# Altium footprint library 0603Capacitor.PcbLib: 3 footprints
Each footprint in its own frame and in the unit in brackets; x right, y up, seen from the top. Pads: shape width x height; smd on the part's side, far side on the other; paste and mask are expansions set on the pad; w line width, h text height; cw(c..) or ccw(c..) is an arc to the next point about the centre after c.
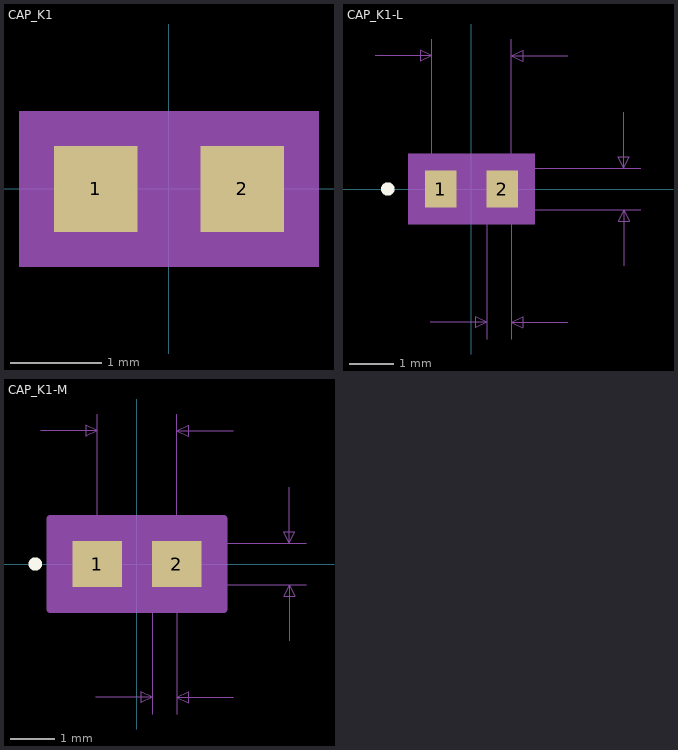
[diagram p0: the footprints below, top view; thin cyan lines are the x and y axes]

## CAP_K1 [mil]
pads (2):
  rect 36x37 smd paste+0 mask+0: 1(-31.5,0) 2(31.5,0)
Mechanical 5:
  region: 64.5,-33.5 -64.5,-33.5 -64.5,33.5 64.5,33.5
Mechanical 13:
  lines w1: -35.5,-18.5 -35.5,18.5 ; -35.5,-18.5 35.5,-18.5 ; -35.5,-18.5 -13.5,-18.5 -13.5,18.5 -35.5,18.5 ; -35.5,-18.5 -35.5,18.5 ; -35.5,18.5 35.5,18.5 ; 35.5,-18.5 35.5,18.5 ; 35.5,-18.5 35.5,18.5 ; 35.5,-18.5 13.5,-18.5 13.5,18.5 35.5,18.5
Mechanical 15:
  region: 59.5,-28.5 -59.5,-28.5 -59.5,28.5 59.5,28.5
  lines w6: -59.5,-28.5 59.5,-28.5 59.5,28.5 -59.5,28.5 -59.5,-28.5
3D body: height 10, standoff 0, extent 0,0 10,10

## CAP_K1-L [mil]
pads (2):
  rect 28x33 smd paste+0 mask+0: 1(-27.5,0) 2(27.5,0)
Top Overlay:
  circle w6: c-74.5,0 r3
Mechanical 5:
  region: 56.5,-31.5 -56.5,-31.5 -56.5,31.5 56.5,31.5
Mechanical 7:
  lines w1: -85.5,118.5 -35.5,118.5 ; -36.5,-118.5 13.5,-118.5 ; -35.5,0 -35.5,133.5 ; 0,-18.5 150.5,-18.5 ; 0,18.5 150.5,18.5 ; 13.5,-133.5 13.5,0 ; 35.5,-133.5 35.5,0 35.5,133.5 ; 85.5,-118.5 35.5,-118.5 ; 85.5,118.5 35.5,118.5 ; 135.5,-68.5 135.5,-18.5 ; 135.5,68.5 135.5,18.5 ; -35.5,118.5 -45.5,123.5 -45.5,113.5 -35.5,118.5 ; 13.5,-118.5 3.5,-113.5 3.5,-123.5 13.5,-118.5 ; 35.5,-118.5 45.5,-113.5 45.5,-123.5 35.5,-118.5 ; 35.5,118.5 45.5,123.5 45.5,113.5 35.5,118.5 ; 135.5,-18.5 130.5,-28.5 140.5,-28.5 135.5,-18.5 ; 135.5,18.5 130.5,28.5 140.5,28.5 135.5,18.5
  text "Default Padstyle: RX28Y33D0T" at -350,-286.5 h50
  text "Alternate 1 Padstyle: OX60Y90D30P" at -412.5,-386.5 h50
  text "Alternate 2 Padstyle: OX90Y60D30P" at -412.5,-486.5 h50
  text "0.037in/0.94mm" at 155.5,-12.5 h25
  text "0.071in/1.803mm" at -93.75,138.5 h25
  text "0.022in/0.559mm" at -69.25,-163.5 h25
Mechanical 13:
  circle w0: c-22.5,0 r3
  lines w1: -35.5,-18.5 -35.5,18.5 ; -35.5,-18.5 -13.5,-18.5 -13.5,18.5 -35.5,18.5 ; -35.5,-18.5 35.5,-18.5 ; -35.5,-18.5 -35.5,18.5 ; -35.5,18.5 35.5,18.5 ; 35.5,-18.5 13.5,-18.5 13.5,18.5 35.5,18.5 ; 35.5,-18.5 35.5,18.5 ; 35.5,-18.5 35.5,18.5
Mechanical 15:
  region: 45.5,-20.5 -45.5,-20.5 -45.5,20.5 45.5,20.5
  lines w6: -45.5,-20.5 -45.5,20.5 45.5,20.5 45.5,-20.5 -45.5,-20.5
3D body: height 10, standoff 0, extent 0,0 10,10

## CAP_K1-M [mil]
pads (2):
  rect 44x41 smd paste+0 mask+0: 1(-35.5,0) 2(35.5,0)
Top Overlay:
  circle w6: c-90.5,0 r3
Mechanical 5:
  region: 72.5,-35.5 -72.5,-35.5 -72.5,35.5 72.5,35.5
Mechanical 7:
  lines w1: -85.5,118.5 -35.5,118.5 ; -36.5,-118.5 13.5,-118.5 ; -35.5,0 -35.5,133.5 ; 0,-18.5 150.5,-18.5 ; 0,18.5 150.5,18.5 ; 13.5,-133.5 13.5,0 ; 35.5,-133.5 35.5,0 35.5,133.5 ; 85.5,-118.5 35.5,-118.5 ; 85.5,118.5 35.5,118.5 ; 135.5,-68.5 135.5,-18.5 ; 135.5,68.5 135.5,18.5 ; -35.5,118.5 -45.5,123.5 -45.5,113.5 -35.5,118.5 ; 13.5,-118.5 3.5,-113.5 3.5,-123.5 13.5,-118.5 ; 35.5,-118.5 45.5,-113.5 45.5,-123.5 35.5,-118.5 ; 35.5,118.5 45.5,123.5 45.5,113.5 35.5,118.5 ; 135.5,-18.5 130.5,-28.5 140.5,-28.5 135.5,-18.5 ; 135.5,18.5 130.5,28.5 140.5,28.5 135.5,18.5
  text "Default Padstyle: RX44Y41D0T" at -350,-290.5 h50
  text "Alternate 1 Padstyle: OX60Y90D30P" at -412.5,-390.5 h50
  text "Alternate 2 Padstyle: OX90Y60D30P" at -412.5,-490.5 h50
  text "0.037in/0.94mm" at 155.5,-12.5 h25
  text "0.071in/1.803mm" at -93.75,138.5 h25
  text "0.022in/0.559mm" at -69.25,-163.5 h25
Mechanical 13:
  circle w0: c-30.5,0 r3
  lines w1: -35.5,-18.5 -35.5,18.5 ; -35.5,-18.5 -13.5,-18.5 -13.5,18.5 -35.5,18.5 ; -35.5,-18.5 35.5,-18.5 ; -35.5,-18.5 -35.5,18.5 ; -35.5,18.5 35.5,18.5 ; 35.5,-18.5 13.5,-18.5 13.5,18.5 35.5,18.5 ; 35.5,-18.5 35.5,18.5 ; 35.5,-18.5 35.5,18.5
Mechanical 15:
  region: 77.5,-40.5 -77.5,-40.5 -77.5,40.5 77.5,40.5
  lines w6: -77.5,-40.5 -77.5,40.5 77.5,40.5 77.5,-40.5 -77.5,-40.5
3D body: height 10, standoff 0, extent 0,0 10,10